# EAGLE library part СНП333-26 (library connectors)
РЮМК.430420.010 ТУ ХАРАКТЕРИСТИКИ Климатическое исполнение – УХЛ 2.1 «В» по ГОСТ В 20.39.404. Количество контактов: 26, 44, 62. Рабочий ток на каждый контакт соединителя при равномерной нагрузке не более 1А. При этом отдельные (несоседние) контакты наружных рядов допускается нагружать током 2А. Остальные контакты в этом случае допускается нагружать током не более 0,7 А. Максимальное рабочее напряжение – 100 В. Сопротивление контактов должно быть не более 20 мОм. Для экранированных соединителей эффективность экранирования должна быть не менее 40 дБ на частоте 0,6 ГГц. Электрическая прочность изоляции 500 В. Покрытие рабочей части контактов: золото, серебро. Смена температур: от максимальной температуры соединителя 115 о С для соединителей без кожуха и в неэкранированном кожухе; 90 о С для соединителей в экранированном кожухе до пониженной рабочей температуры среды минус 65 о. Минимальная наработка: 20000 часов – с золотым покрытием 15000 часов – с серебряным покрытием Срок сохраняемости – 20 лет. Производитель: АО «Карачевский завод "Электродеталь" 242500 Брянская область, г. Карачев, ул. Горького, 1
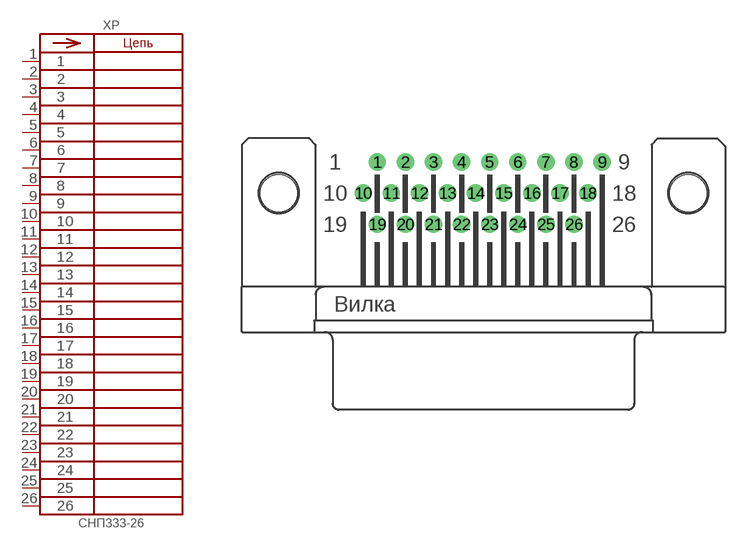
[diagram p0: symbol with the pads of СНП333-26; footprint СНП333-26]

Designator prefix XP

## СНП333-26РП31-1-В  [СНП333-26]
1  1  pas
2  2  pas
3  3  pas
4  4  pas
5  5  pas
6  6  pas
7  7  pas
8  8  pas
9  9  pas
10  10  pas
11  11  pas
12  12  pas
13  13  pas
14  14  pas
15  15  pas
16  16  pas
17  17  pas
18  18  pas
19  19  pas
20  20  pas
21  21  pas
22  22  pas
23  23  pas
24  24  pas
25  25  pas
26  26  pas

## СНП333-26РП31-3-В  [СНП333-26]
Pads as for СНП333-26

## Footprint СНП333-26 (pad centres in mm)
drill 0.9: 1 -8.639,2.54; 2 -6.353,2.54; 3 -4.067,2.54; 4 -1.781,2.54; 5 0.505,2.54; 6 2.791,2.54; 7 5.077,2.54; 8 7.363,2.54; 9 9.649,2.54; 10 -9.782,0; 11 -7.496,0; 12 -5.21,0; 13 -2.924,0; 14 -0.638,0; 15 1.648,0; 16 3.934,0; 17 6.22,0; 18 8.506,0; 19 -8.639,-2.54; 20 -6.353,-2.54; 21 -4.067,-2.54; 22 -1.781,-2.54; 23 0.505,-2.54; 24 2.791,-2.54; 25 5.077,-2.54; 26 7.363,-2.54
hole 3 at -16.65,0
hole 3 at 16.65,0